# Altium schematic symbol library TI Interface ESD EMI Protection.SchLib: 82 symbols (part 3 of 3)
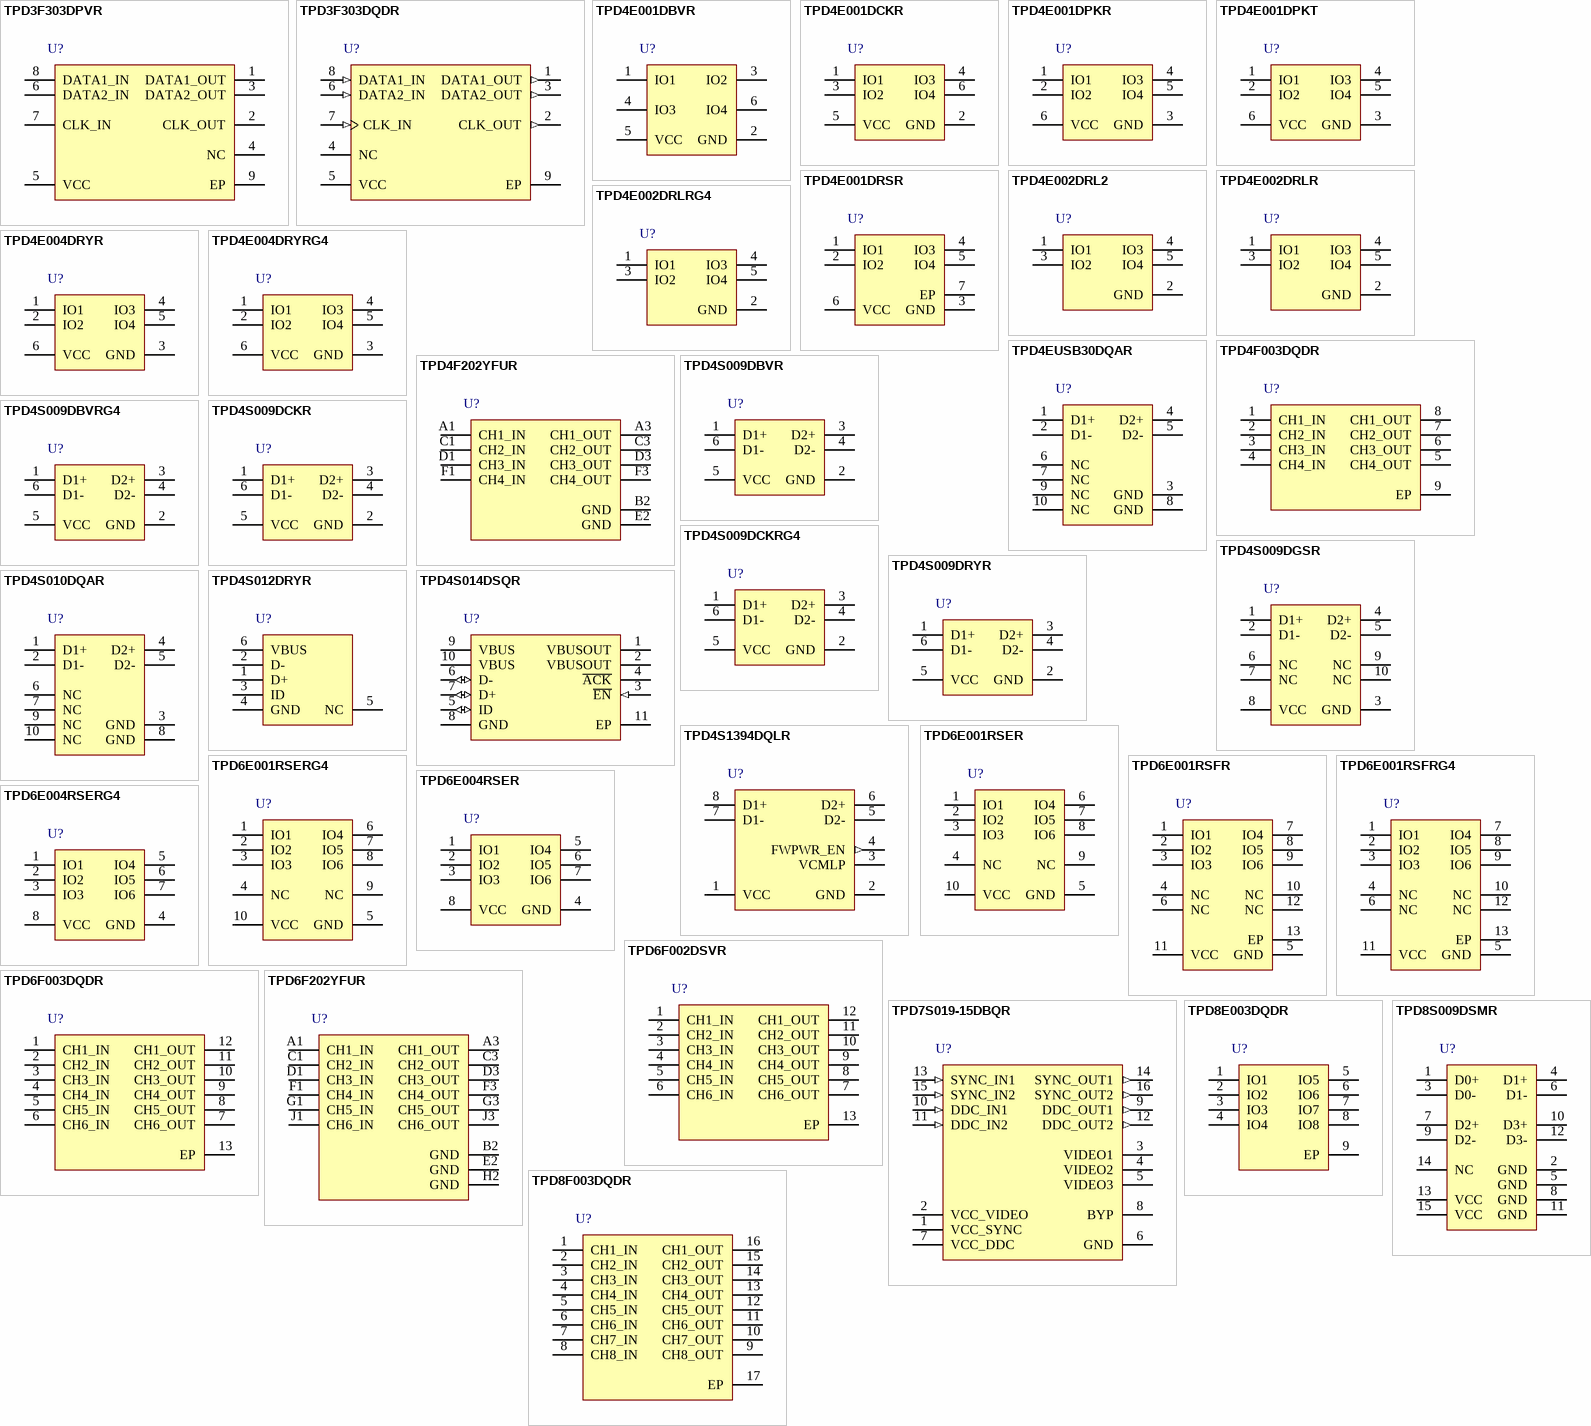
[diagram p4: symbols TPD3F303DPVR to TPD8S009DSMR]

## TPD4S009DRYR
designator U?
ESD Solution for High-Speed Differential Interface, 4 Channels, -40 to +85 degC, 6-pin SON (DRY), Green (RoHS & no Sb/Br); Manufacturer: Texas Instruments; PartNumber: TPD4S009DRYR; Breakdown Voltage(Min)(V): 9; Differential Capacitance(pF): 0.05; IEC 61000-4-2 Contact(+/- kV): 8; IO Capacitance(Typ)(pF): 0.8; IO Leakage Current(nA): 10; DatasheetVersion: SLVS817E; PackageVersion: revF, Dec-2011; PackageReference: DRY6; PackageDescription: 6-Pin Plastic Small Outline No-Lead, 1 x 1.45 x 0.6 mm Body, 0.5 mm Pitch; Supplier 1: Digi-Key; Supplier Part Number 1: 296-23628-2-ND; Supplier 2: Digi-Key; Supplier Part Number 2: 296-23628-1-ND; Supplier 3: Digi-Key; Supplier Part Number 3: 296-23628-6-ND; Supplier 4: Newark; Supplier Part Number 4: 03P5149; Supplier 5: Mouser; Supplier Part Number 5: 595-TPD4S009DRYR; Eco-Plan: Green (RoHS & no Sb/Br); IEC 61000-4-2 Air-Gap(+/- kV): 9; SubFamily: ESD Solution; Mounting Technology: Surface Mount; ComponentLink1Description: Datasheet; ComponentLink1URL: http://www.ti.com/general/docs/lit/getliterature.tsp?genericPartNumber=TPD4S009&fileType=pdf; ComponentLink2Description: URL Link1; ComponentLink2URL: SamplesURL:http://www.ti.com/product/tpd4s009#samples
footprint DRY6 (PSON, 6-Leads, Body 1x1.45mm, Pitch 0.5mm, TI Recommended)
pins: 1 D1+ "High-speed ESD clamp provides ESD protection to the high-speed display port/HDMI differential data lines.", 2 GND (power) "Ground", 3 D2+ "High-speed ESD clamp provides ESD protection to the high-speed display port/HDMI differential data lines.", 4 D2- "High-speed ESD clamp provides ESD protection to the high-speed display port/HDMI differential data lines.", 5 VCC (power) "Supply", 6 D1- "High-speed ESD clamp provides ESD protection to the high-speed display port/HDMI differential data lines."

## TPD4S010DQAR
designator U?
ESD Solution for High-Speed Differential Interface, 4 Channels, -40 to +85 degC,10-pin SON (DQA), Green (RoHS & no Sb/Br); Manufacturer: Texas Instruments; PartNumber: TPD4S010DQAR; 1394 / Firewire: TRUE; Breakdown Voltage(Min)(V): 9; Differential Capacitance(pF): 0.05; IEC 61000-4-2 Contact(+/- kV): 8; IO Capacitance(Typ)(pF): 0.8; IO Leakage Current(nA): 10; DatasheetVersion: SLVS817E; PackageVersion: revB, Sep-2009; PackageReference: DQA10; PackageDescription: 10-Pin Plastic Small Outline No-Lead, 1 x 2.5 x 0.55 mm Body, 0.5 mm Pitch; Supplier 1: Digi-Key; Supplier Part Number 1: 296-24177-2-ND; Supplier 2: Digi-Key; Supplier Part Number 2: 296-24177-1-ND; Supplier 3: Digi-Key; Supplier Part Number 3: 296-24177-6-ND; Supplier 4: Newark; Supplier Part Number 4: 09R6564; Supplier 5: Mouser; Supplier Part Number 5: 595-TPD4S010DQAR; Eco-Plan: Green (RoHS & no Sb/Br); IEC 61000-4-2 Air-Gap(+/- kV): 9; Serial ATA / eSATA: TRUE; SubFamily: ESD Solution; Mounting Technology: Surface Mount; ComponentLink1Description: Datasheet; ComponentLink1URL: http://www.ti.com/general/docs/lit/getliterature.tsp?genericPartNumber=TPD4S010&fileType=pdf; ComponentLink2Description: URL Link1; ComponentLink2URL: SamplesURL:http://www.ti.com/product/tpd4s010#samples
footprint DQA10 (SON, 10-Leads, Body 1x2.5mm, Pitch 0.5mm, TI Recommended)
pins: 1 D1+ "High-speed ESD clamp provides ESD protection to the high-speed differential data line", 2 D1- "High-speed ESD clamp provides ESD protection to the high-soeed differential data line", 3 GND (power) "Ground", 4 D2+ "High-speed ESD clamp provides ESD protection to the high-speed differential data line", 5 D2- "High-speed ESD clamp provides ESD protection to the high-speed differential data line", 6 NC "Not internally connected", 7 NC "Not internally connected", 8 GND (power) "Ground", 9 NC "Not internally connected", 10 NC "Not internally connected"

## TPD4S012DRYR
designator U?
USB ESD Solution with Power Clamp, 4 Channels, -40 to +85 degC, 6-pin SON (DRY), Green (RoHS & no Sb/Br); Manufacturer: Texas Instruments; PartNumber: TPD4S012DRYR; Breakdown Voltage(Min)(V): 6; IEC 61000-4-2 Air-Gap(+/- kV): 10; IO Capacitance(Typ)(pF): 0.8; USB High Speed: TRUE; DatasheetVersion: SLVS928A; PackageVersion: revF, Dec-2011; PackageReference: DRY6; PackageDescription: 6-Pin Plastic Small Outline No-Lead, 1 x 1.45 x 0.6 mm Body, 0.5 mm Pitch; Supplier 1: Digi-Key; Supplier Part Number 1: 296-24244-2-ND; Supplier 2: Digi-Key; Supplier Part Number 2: 296-24244-1-ND; Supplier 3: Digi-Key; Supplier Part Number 3: 296-24244-6-ND; Supplier 4: Farnell; Supplier Part Number 4: 1755332; Supplier 5: Newark; Supplier Part Number 5: 73P5280; Supplier 6: Mouser; Supplier Part Number 6: 595-TPD4S012DRYR; Eco-Plan: Green (RoHS & no Sb/Br); IEC 61000-4-2 Contact(+/- kV): 10; IO Leakage Current(nA): 10; SubFamily: ESD Solution; Mounting Technology: Surface Mount; ComponentLink1Description: Datasheet; ComponentLink1URL: http://www.ti.com/general/docs/lit/getliterature.tsp?genericPartNumber=TPD4S012&fileType=pdf; ComponentLink2Description: URL Link1; ComponentLink2URL: SamplesURL:http://www.ti.com/product/tpd4s012#samples
footprint DRY6 (PSON, 6-Leads, Body 1x1.45mm, Pitch 0.5mm, TI Recommended)
pins: 1 D+ "Provides ESD protection to the high-speed differential data line", 2 D- "Provides ESD protection to the high-speed differential data line", 3 ID "Provides ESD protection to the high-speed differential data line", 4 GND (power) "Ground", 5 NC "Not internally connected", 6 VBUS "ESD clamp for high-voltage tolerant VBUS line"

## TPD4S014DSQR
designator U?
Complete USB Port Protection Device, 4 Channels, -40 to +85 degC, 10-pin SON (DSQ), Green (RoHS & no Sb/Br); Manufacturer: Texas Instruments; PartNumber: TPD4S014DSQR; Breakdown Voltage(Min)(V): 6V, 28V (VBUS); Differential Capacitance(pF): 0.05; IEC 61000-4-2 Air-Gap(+/- kV): 15; IO Capacitance(Typ)(pF): 1.5; IO Leakage Current(nA): 1000; SubFamily: ESD Solution; USB Full Speed: TRUE; DatasheetVersion: SLVSAU0C; PackageVersion: revB, Apr-2010; PackageReference: DSQ10-1500X900TP; PackageDescription: 10-Pin Plastic Small Outline No-Lead, 2 x 2 x 0.8 mm Body, 0.4 mm Pitch, Exposed Pad; Supplier 1: Digi-Key; Supplier Part Number 1: 296-29093-2-ND; Supplier 2: Digi-Key; Supplier Part Number 2: 296-29093-1-ND; Supplier 3: Digi-Key; Supplier Part Number 3: 296-29093-6-ND; Supplier 4: Farnell; Supplier Part Number 4: 1926951; Supplier 5: Farnell; Supplier Part Number 5: 1926951RL; Supplier 6: Newark; Supplier Part Number 6: 51T4811; Supplier 7: Newark; Supplier Part Number 7: 58T2304; Supplier 8: Mouser; Supplier Part Number 8: 595-TPD4S014DSQR; Eco-Plan: Green (RoHS & no Sb/Br); IEC 61000-4-2 Contact(+/- kV): 15; USB High Speed: TRUE; Mounting Technology: Surface Mount; ComponentLink1Description: Datasheet; ComponentLink1URL: http://www.ti.com/general/docs/lit/getliterature.tsp?genericPartNumber=TPD4S014&fileType=pdf; ComponentLink2Description: URL Link1; ComponentLink2URL: SamplesURL:http://www.ti.com/product/tpd4s014#samples
footprint DSQ10-1500X900TP (SON, 10-Leads, Body 2x2mm, Pitch 0.4mm, Thermal Pad 1.5x0.9mm, TI Recommended)
pins: 1 VBUSOUT (power) "Connect to PCB internal PCB plane", 2 VBUSOUT (power) "Connect to PCB internal PCB plane", 3 ~{EN} (in) "Enable Active-Low Input. Drive EN low to enable the switch. Drive EN high to disable the switch.", 4 ~{ACK} (oc) "Open-Drain Adapter-Voltage Indicator Output. ACOK is driven low after the VIN voltage is stable between UVLO and OVLO for 16ms (typ). Connect a pullup resistor from ACOK to the logic I/O voltage of the host system.", 5 ID (io) "USB ID signal", 6 D- (io) "USB data-", 7 D+ (io) "USB data+", 8 GND (power) "Connect to PCB ground plane", 9 VBUS (power) "USB connector VBUS", 10 VBUS (power) "USB connector VBUS", 11 EP (power) "Electrically disconnected. Use as heat sink. Connect to GND plane via large PCB PAD"

## TPD4S1394DQLR
designator U?
Firewire ESD Clamp with Live-Insertion Detection Circuit, 4 Channels, -40 to +85 degC, 8-pin X2SON (DQL), Green (RoHS & no Sb/Br); Manufacturer: Texas Instruments; PartNumber: TPD4S1394DQLR; Breakdown Voltage(Min)(V): 4; IEC 61000-4-2 Contact(+/- kV): 6; IO Capacitance(Typ)(pF): 1.5; SubFamily: ESD Solution; DatasheetVersion: SLVSA55; PackageVersion: revA, Jun-2009; PackageReference: DQL8; PackageDescription: 8-Pin Plastic Small Outline No-Lead, 1.4 x 2 x 0.4 mm Body, 0.5 mm Pitch; Supplier 1: Digi-Key; Supplier Part Number 1: 296-25455-2-ND; Supplier 2: Digi-Key; Supplier Part Number 2: 296-25455-1-ND; Supplier 3: Digi-Key; Supplier Part Number 3: 296-25455-6-ND; Supplier 4: Farnell; Supplier Part Number 4: 1815759RL; Supplier 5: Newark; Supplier Part Number 5: 55R7555; Supplier 6: Newark; Supplier Part Number 6: 53R2229; Supplier 7: Mouser; Supplier Part Number 7: 595-TPD4S1394DQLR; Eco-Plan: Green (RoHS & no Sb/Br); Mounting Technology: Surface Mount; ComponentLink1Description: Datasheet; ComponentLink1URL: http://www.ti.com/general/docs/lit/getliterature.tsp?genericPartNumber=TPD4S1394&fileType=pdf; ComponentLink2Description: URL Link1; ComponentLink2URL: SamplesURL:http://www.ti.com/product/tpd4s1394#samples
footprint DQL8 (SON, 8-Leads, Body 1.4x2mm, Pitch 0.5mm, TI Recommended)
pins: 1 VCC (power) "Power supply", 2 GND (power) "Ground", 3 VCMLP "Comparator trip reference", 4 FWPWR_EN (out) "Control output", 5 D2- "High-speed ESD clamp input", 6 D2+ "High-speed ESD clamp input", 7 D1- "High-speed ESD clamp input", 8 D1+ "High-speed ESD clamp input"

## TPD6E001RSER
designator U?
Low-Capacitance + / - 15 kV ESD Protection Array for High-Speed Data Interfaces, 6 Channels, -40 to +85 degC, 10-pin UQFN (RSE), Green (RoHS & no Sb/Br); Manufacturer: Texas Instruments; PartNumber: TPD6E001RSER; 1394 / Firewire: TRUE; Breakdown Voltage(Min)(V): 11; IEC 61000-4-2 Air-Gap(+/- kV): 15; IEC 61000-4-2 Contact(+/- kV): 8; IO Capacitance(Typ)(pF): 1.5; IO Leakage Current(nA): 1; SubFamily: ESD Solution; DatasheetVersion: SLLS685C; PackageVersion: revD, Jan-2011; PackageReference: RSE10; PackageDescription: 10-Leads Plastic Quad Flatpack No-Lead, 2 x 1.5 x 0.55 mm Body, 0.5 mm Pitch; Supplier 1: Digi-Key; Supplier Part Number 1: 296-21888-2-ND; Supplier 2: Digi-Key; Supplier Part Number 2: 296-21888-1-ND; Supplier 3: Digi-Key; Supplier Part Number 3: 296-21888-6-ND; Supplier 4: Farnell; Supplier Part Number 4: 1364274; Supplier 5: Newark; Supplier Part Number 5: 30M1828; Supplier 6: Mouser; Supplier Part Number 6: 595-TPD6E001RSER; Eco-Plan: Green (RoHS & no Sb/Br); Serial ATA / eSATA: TRUE; USB High Speed: TRUE; Mounting Technology: Surface Mount; Code_JEDEC: MO-288-UEFD; ComponentLink1Description: Datasheet; ComponentLink1URL: http://www.ti.com/general/docs/lit/getliterature.tsp?genericPartNumber=TPD6E001&fileType=pdf; ComponentLink2Description: URL Link1; ComponentLink2URL: SamplesURL:http://www.ti.com/product/tpd6e001#samples
footprint RSE10 (QFN, 10-Leads, Body 1.5x2mm, Pitch 0.5mm, TI Recommended)
pins: 1 IO1 "ESD-protected channel", 2 IO2 "ESD-protected channel", 3 IO3 "ESD-protected channel", 4 NC "Not internally connected", 5 GND (power) "Ground", 6 IO4 "ESD-protected channel", 7 IO5 "ESD-protected channel", 8 IO6 "ESD-protected channel", 9 NC "Not internally connected", 10 VCC (power) "Power-supply input. Bypass VCC to GND with a 0.1-uF ceramic capacitor."

## TPD6E001RSERG4
designator U?
Low-Capacitance + / - 15 kV ESD Protection Array for High-Speed Data Interfaces, 6 Channels, -40 to +85 degC, 10-pin UQFN (RSE), Green (RoHS & no Sb/Br); Manufacturer: Texas Instruments; PartNumber: TPD6E001RSERG4; 1394 / Firewire: TRUE; Breakdown Voltage(Min)(V): 11; IEC 61000-4-2 Air-Gap(+/- kV): 15; IEC 61000-4-2 Contact(+/- kV): 8; IO Capacitance(Typ)(pF): 1.5; IO Leakage Current(nA): 1; SubFamily: ESD Solution; DatasheetVersion: SLLS685C; PackageVersion: revD, Jan-2011; PackageReference: RSE10; PackageDescription: 10-Leads Plastic Quad Flatpack No-Lead, 2 x 1.5 x 0.55 mm Body, 0.5 mm Pitch; Supplier 1: Digi-Key; Supplier Part Number 1: TPD6E001RSERG4-ND; Supplier 2: Newark; Supplier Part Number 2: 46M1089; Supplier 3: Mouser; Supplier Part Number 3: 595-TPD6E001RSERG4; Eco-Plan: Green (RoHS & no Sb/Br); Serial ATA / eSATA: TRUE; USB High Speed: TRUE; Mounting Technology: Surface Mount; Code_JEDEC: MO-288-UEFD; ComponentLink1Description: Datasheet; ComponentLink1URL: http://www.ti.com/general/docs/lit/getliterature.tsp?genericPartNumber=TPD6E001&fileType=pdf; ComponentLink2Description: URL Link1; ComponentLink2URL: SamplesURL:http://www.ti.com/product/tpd6e001#samples
footprint RSE10 (QFN, 10-Leads, Body 1.5x2mm, Pitch 0.5mm, TI Recommended)
pins: 1 IO1 "ESD-protected channel", 2 IO2 "ESD-protected channel", 3 IO3 "ESD-protected channel", 4 NC "Not internally connected", 5 GND (power) "Ground", 6 IO4 "ESD-protected channel", 7 IO5 "ESD-protected channel", 8 IO6 "ESD-protected channel", 9 NC "Not internally connected", 10 VCC (power) "Power-supply input. Bypass VCC to GND with a 0.1-uF ceramic capacitor."

## TPD6E001RSFR
designator U?
Low-Capacitance + / - 15 kV ESD Protection Array for High-Speed Data Interfaces, 6 Channels, -40 to +85 degC, 12-pin WQFN (RSF), Green (RoHS & no Sb/Br); Manufacturer: Texas Instruments; PartNumber: TPD6E001RSFR; 1394 / Firewire: TRUE; Breakdown Voltage(Min)(V): 11; IEC 61000-4-2 Air-Gap(+/- kV): 15; IEC 61000-4-2 Contact(+/- kV): 8; IO Capacitance(Typ)(pF): 1.5; IO Leakage Current(nA): 1; SubFamily: ESD Solution; DatasheetVersion: SLLS685C; PackageVersion: revB, Apr-2007; PackageReference: RSF12-2100X2100TP; PackageDescription: 12-Pin Plastic Quad Flatpack No-Lead, 4 x 4 x 0.75 mm Body, 0.8 mm Pitch, Exposed Pad; Supplier 1: Digi-Key; Supplier Part Number 1: 296-21889-2-ND; Supplier 2: Digi-Key; Supplier Part Number 2: 296-21889-1-ND; Supplier 3: Digi-Key; Supplier Part Number 3: 296-21889-6-ND; Supplier 4: Farnell; Supplier Part Number 4: 1603423; Supplier 5: Newark; Supplier Part Number 5: 41M5844; Supplier 6: Mouser; Supplier Part Number 6: 595-TPD6E001RSFR; Eco-Plan: Green (RoHS & no Sb/Br); Serial ATA / eSATA: TRUE; USB High Speed: TRUE; Mounting Technology: Surface Mount; Code_JEDEC: MO-220-WGGB; ComponentLink1Description: Datasheet; ComponentLink1URL: http://www.ti.com/general/docs/lit/getliterature.tsp?genericPartNumber=TPD6E001&fileType=pdf; ComponentLink2Description: URL Link1; ComponentLink2URL: SamplesURL:http://www.ti.com/product/tpd6e001#samples
footprint RSF12-2100X2100TP (QFN, 12-Leads, Body 4x4mm, Pitch 0.8mm, Thermal Pad 2.2x2.2mm, TI Recommended)
pins: 1 IO1 "ESD-protected channel", 2 IO2 "ESD-protected channel", 3 IO3 "ESD-protected channel", 4 NC "Not internally connected", 5 GND (power) "Ground", 6 NC "Not internally connected", 7 IO4 "ESD-protected channel", 8 IO5 "ESD-protected channel", 9 IO6 "ESD-protected channel", 10 NC "Not internally connected", 11 VCC (power) "Power-supply input. Bypass VCC to GND with a 0.1-uF ceramic capacitor.", 12 NC "Not internally connected", 13 EP (power) "Exposed pad. Connect to GND."

## TPD6E001RSFRG4
designator U?
Low-Capacitance + / - 15 kV ESD Protection Array for High-Speed Data Interfaces, 6 Channels, -40 to +85 degC, 12-pin WQFN (RSF), Green (RoHS & no Sb/Br); Manufacturer: Texas Instruments; PartNumber: TPD6E001RSFRG4; 1394 / Firewire: TRUE; Breakdown Voltage(Min)(V): 11; IEC 61000-4-2 Air-Gap(+/- kV): 15; IEC 61000-4-2 Contact(+/- kV): 8; IO Capacitance(Typ)(pF): 1.5; IO Leakage Current(nA): 1; SubFamily: ESD Solution; DatasheetVersion: SLLS685C; PackageVersion: revB, Apr-2007; PackageReference: RSF12-2100X2100TP; PackageDescription: 12-Pin Plastic Quad Flatpack No-Lead, 4 x 4 x 0.75 mm Body, 0.8 mm Pitch, Exposed Pad; Supplier 1: Digi-Key; Supplier Part Number 1: TPD6E001RSFRG4-ND; Supplier 2: Newark; Supplier Part Number 2: 53M4000; Supplier 3: Mouser; Supplier Part Number 3: 595-TPD6E001RSFRG4; Eco-Plan: Green (RoHS & no Sb/Br); Serial ATA / eSATA: TRUE; USB High Speed: TRUE; Mounting Technology: Surface Mount; Code_JEDEC: MO-220-WGGB; ComponentLink1Description: Datasheet; ComponentLink1URL: http://www.ti.com/general/docs/lit/getliterature.tsp?genericPartNumber=TPD6E001&fileType=pdf; ComponentLink2Description: URL Link1; ComponentLink2URL: SamplesURL:http://www.ti.com/product/tpd6e001#samples
footprint RSF12-2100X2100TP (QFN, 12-Leads, Body 4x4mm, Pitch 0.8mm, Thermal Pad 2.2x2.2mm, TI Recommended)
pins: 1 IO1 "ESD-protected channel", 2 IO2 "ESD-protected channel", 3 IO3 "ESD-protected channel", 4 NC "Not internally connected", 5 GND (power) "Ground", 6 NC "Not internally connected", 7 IO4 "ESD-protected channel", 8 IO5 "ESD-protected channel", 9 IO6 "ESD-protected channel", 10 NC "Not internally connected", 11 VCC (power) "Power-supply input. Bypass VCC to GND with a 0.1-uF ceramic capacitor.", 12 NC "Not internally connected", 13 EP (power) "Exposed pad. Connect to GND."

## TPD6E004RSER
designator U?
Low-Capacitance + / - 15 kV ESD Protection Array for High-Speed Data Interfaces, 6 Channels, -40 to +85 degC, 8-pin UQFN (RSE), Green (RoHS & no Sb/Br); Manufacturer: Texas Instruments; PartNumber: TPD6E004RSER; 1394 / Firewire: TRUE; Breakdown Voltage(Min)(V): 6; IEC 61000-4-2 Air-Gap(+/- kV): 12; IEC 61000-4-2 Contact(+/- kV): 8; IO Capacitance(Typ)(pF): 1.6; IO Leakage Current(nA): 1; SubFamily: ESD Solution; DatasheetVersion: SLLS799A; PackageVersion: revD, Jan-2011; PackageReference: RSE8; PackageDescription: 8-Pin Plastic Quad Flatpack No-Lead, 1.5 x 1.5 mm Body, 0.5 mm Pitch; Supplier 1: Digi-Key; Supplier Part Number 1: 296-23619-2-ND; Supplier 2: Digi-Key; Supplier Part Number 2: 296-23619-1-ND; Supplier 3: Digi-Key; Supplier Part Number 3: 296-23619-6-ND; Supplier 4: Farnell; Supplier Part Number 4: 1755333; Supplier 5: Newark; Supplier Part Number 5: 85M0178; Supplier 6: Mouser; Supplier Part Number 6: 595-TPD6E004RSER; Eco-Plan: Green (RoHS & no Sb/Br); Serial ATA / eSATA: TRUE; USB High Speed: TRUE; Mounting Technology: Surface Mount; Code_JEDEC: MO-288; ComponentLink1Description: Datasheet; ComponentLink1URL: http://www.ti.com/general/docs/lit/getliterature.tsp?genericPartNumber=TPD6E004&fileType=pdf; ComponentLink2Description: URL Link1; ComponentLink2URL: SamplesURL:http://www.ti.com/product/tpd6e004#samples
footprint RSE8 (QFN, 8-Leads, Body 1.5x1.5mm, Pitch 0.5mm, TI Recommended)
pins: 1 IO1 "ESD-protected channel", 2 IO2 "ESD-protected channel", 3 IO3 "ESD-protected channel", 4 GND (power) "Ground", 5 IO4 "ESD-protected channel", 6 IO5 "ESD-protected channel", 7 IO6 "ESD-protected channel", 8 VCC (power) "Power-supply input. Bypass VCC to GND with a 0.1-µF ceramic capacitor."

## TPD6E004RSERG4
designator U?
Low-Capacitance + / - 15 kV ESD Protection Array for High-Speed Data Interfaces, 6 Channels, -40 to +85 degC, 8-pin QFN (RSE), Green (RoHS & no Sb/Br); Manufacturer: Texas Instruments; PartNumber: TPD6E004RSERG4; 1394 / Firewire: TRUE; Breakdown Voltage(Min)(V): 6; IEC 61000-4-2 Air-Gap(+/- kV): 12; IEC 61000-4-2 Contact(+/- kV): 8; IO Capacitance(Typ)(pF): 1.6; IO Leakage Current(nA): 1; SubFamily: ESD Solution; DatasheetVersion: SLLS799A; PackageVersion: revD, Jan-2011; PackageReference: RSE8; PackageDescription: 8-Pin Plastic Quad Flatpack No-Lead, 1.5 x 1.5 mm Body, 0.5 mm Pitch; Supplier 1: Digi-Key; Supplier Part Number 1: TPD6E004RSERG4-ND; Supplier 2: Mouser; Supplier Part Number 2: 595-TPD6E004RSERG4; Eco-Plan: Green (RoHS & no Sb/Br); Serial ATA / eSATA: TRUE; USB High Speed: TRUE; Mounting Technology: Surface Mount; Code_JEDEC: MO-288; ComponentLink1Description: Datasheet; ComponentLink1URL: http://www.ti.com/general/docs/lit/getliterature.tsp?genericPartNumber=TPD6E004&fileType=pdf; ComponentLink2Description: URL Link1; ComponentLink2URL: SamplesURL:http://www.ti.com/product/tpd6e004#samples
footprint RSE8 (QFN, 8-Leads, Body 1.5x1.5mm, Pitch 0.5mm, TI Recommended)
pins: 1 IO1 "ESD-protected channel", 2 IO2 "ESD-protected channel", 3 IO3 "ESD-protected channel", 4 GND (power) "Ground", 5 IO4 "ESD-protected channel", 6 IO5 "ESD-protected channel", 7 IO6 "ESD-protected channel", 8 VCC (power) "Power-supply input. Bypass VCC to GND with a 0.1-µF ceramic capacitor."

## TPD6F002DSVR
designator U?
EMI Filter for Display Interface, 6 Channels, -40 to +85 degC, 12-pin SON (DSV), Green (RoHS & no Sb/Br); Manufacturer: Texas Instruments; PartNumber: TPD6F002DSVR; Breakdown Voltage(Min)(V): 6; Ctotal(Typ)(pF): 34; IEC 61000-4-2 Air-Gap(Typ)(+/- kV): 30; IEC 61000-4-2 Contact(Typ)(+/- kV): 20; SubFamily: EMI Solution; DatasheetVersion: SLLS876A; PackageVersion: revB, Dec-2011; PackageReference: DSV12-2000X350TP; PackageDescription: 12-Pin Plastic Small Outline No-Lead, 1.35 x 3 x 0.8 mm Body, 0.5 mm Pitch, Exposed Pad; Supplier 1: Digi-Key; Supplier Part Number 1: 296-25456-2-ND; Supplier 2: Digi-Key; Supplier Part Number 2: 296-25456-1-ND; Supplier 3: Digi-Key; Supplier Part Number 3: 296-25456-6-ND; Supplier 4: Farnell; Supplier Part Number 4: 1815760; Supplier 5: Farnell; Supplier Part Number 5: 1815760RL; Supplier 6: Newark; Supplier Part Number 6: 53R2230; Supplier 7: Mouser; Supplier Part Number 7: 595-TPD6F002DSVR; Eco-Plan: Green (RoHS & no Sb/Br); Mounting Technology: Surface Mount; ComponentLink1Description: Datasheet; ComponentLink1URL: http://www.ti.com/general/docs/lit/getliterature.tsp?genericPartNumber=TPD6F002&fileType=pdf; ComponentLink2Description: URL Link1; ComponentLink2URL: SamplesURL:http://www.ti.com/product/tpd6f002#samples
footprint DSV12-2000X350TP (SON, 12-Leads, Body 1.35x3mm, Pitch 0.5mm, Thermal Pad 2x0.35mm, TI Recommended)
pins: 1 CH1_IN, 2 CH2_IN, 3 CH3_IN, 4 CH4_IN, 5 CH5_IN, 6 CH6_IN, 7 CH6_OUT, 8 CH5_OUT, 9 CH4_OUT, 10 CH3_OUT, 11 CH2_OUT, 12 CH1_OUT, 13 EP (power) "Exposed Thermal Pad"

## TPD6F003DQDR
designator U?
EMI Filter for Display Interface, 6 Channels, -40 to +85 degC, 12-pin WSON (DQD), Green (RoHS & no Sb/Br); Manufacturer: Texas Instruments; PartNumber: TPD6F003DQDR; Breakdown Voltage(Min)(V): 6; Ctotal(Typ)(pF): 19; IEC 61000-4-2 Air-Gap(Typ)(+/- kV): 20; IEC 61000-4-2 Contact(Typ)(+/- kV): 12; SubFamily: EMI Solution; DatasheetVersion: SLLS907D; PackageVersion: revC, Dec-2011; PackageReference: DQD12-2000X400TP; PackageDescription: 12-Pin Plastic Small Outline No-Lead, 1.35 x 2.5 x 0.8 mm Body, 0.4 mm Pitch, Exposed Pad; Supplier 1: Digi-Key; Supplier Part Number 1: 296-25802-2-ND; Supplier 2: Digi-Key; Supplier Part Number 2: 296-25802-1-ND; Supplier 3: Digi-Key; Supplier Part Number 3: 296-25802-6-ND; Supplier 4: Farnell; Supplier Part Number 4: 1863883; Supplier 5: Newark; Supplier Part Number 5: 69R4547; Supplier 6: Mouser; Supplier Part Number 6: 595-TPD6F003DQDR; Eco-Plan: Green (RoHS & no Sb/Br); Mounting Technology: Surface Mount; ComponentLink1Description: Datasheet; ComponentLink1URL: http://www.ti.com/general/docs/lit/getliterature.tsp?genericPartNumber=TPD6F003&fileType=pdf; ComponentLink2Description: URL Link1; ComponentLink2URL: SamplesURL:http://www.ti.com/product/tpd6f003#samples
footprint DQD12-2000X400TP (SON, 12-Leads, Body 1.35x2.5mm, Pitch 0.4mm, Thermal Pad 2x0.4mm, TI Recommended)
pins: 1 CH1_IN, 2 CH2_IN, 3 CH3_IN, 4 CH4_IN, 5 CH5_IN, 6 CH6_IN, 7 CH6_OUT, 8 CH5_OUT, 9 CH4_OUT, 10 CH3_OUT, 11 CH2_OUT, 12 CH1_OUT, 13 EP (power) "Exposed Thermal Pad"

## TPD6F202YFUR
designator U?
EMI Filter for LCD Display Application, 6 Channels, -40 to +85 degC, 15-pin DSBGA (YFU), Green (RoHS & no Sb/Br); Manufacturer: Texas Instruments; PartNumber: TPD6F202YFUR; Breakdown Voltage(Min)(V): 6; Ctotal(Typ)(pF): 30; IEC 61000-4-2 Air-Gap(Typ)(+/- kV): 25; SubFamily: EMI Solution; DatasheetVersion: SLLS800; PackageVersion: revC, Mar-2010; PackageReference: YFU15; PackageDescription: 15-Ball Staggered Ball Grid Array, 2.36 x 1.05 mm Body, 0.693/0.4 mm Pitch, Pb-Free; Supplier 1: Digi-Key; Supplier Part Number 1: 296-27638-2-ND; Supplier 2: Digi-Key; Supplier Part Number 2: 296-27638-1-ND; Supplier 3: Digi-Key; Supplier Part Number 3: 296-27638-6-ND; Supplier 4: Mouser; Supplier Part Number 4: 595-TPD6F202YFUR; Eco-Plan: Green (RoHS & no Sb/Br); IEC 61000-4-2 Contact(Typ)(+/- kV): 25; Mounting Technology: Surface Mount; ComponentLink1Description: Datasheet; ComponentLink1URL: http://www.ti.com/general/docs/lit/getliterature.tsp?genericPartNumber=TPD6F202&fileType=pdf; ComponentLink2Description: URL Link1; ComponentLink2URL: SamplesURL:http://www.ti.com/product/tpd6f202#samples
footprint YFU15 (BGA, Staggered, 15-Leads, Body 2.36x1.05mm, Pitch 0.693/0.4mm)
pins: A1 CH1_IN, A3 CH1_OUT, B2 GND (power), C1 CH2_IN, C3 CH2_OUT, D1 CH3_IN, D3 CH3_OUT, E2 GND (power), F1 CH4_IN, F3 CH4_OUT, G1 CH5_IN, G3 CH5_OUT, H2 GND (power), J1 CH6_IN, J3 CH6_OUT

## TPD7S019-15DBQR
designator U?
Integrated ESD Solution for VGA Port with Integrated Level Shifter and Matching Impedance, 7 Channels, -40 to +85 degC, 16-pin SSOP (DBQ), Green (RoHS & no Sb/Br); Manufacturer: Texas Instruments; PartNumber: TPD7S019-15DBQR; Breakdown Voltage(Min)(V): 9; IEC 61000-4-2 Contact(+/- kV): 8; IO Capacitance(Typ)(pF): 2.5; IO Leakage Current(nA): 10; DatasheetVersion: SLLSE33; PackageVersion: revH, Oct-2008; PackageReference: DBQ16; PackageDescription: 16-Pin Small Outline Package 0.635 mm Pitch; Supplier 1: Digi-Key; Supplier Part Number 1: 296-27595-2-ND; Supplier 2: Digi-Key; Supplier Part Number 2: 296-27595-1-ND; Supplier 3: Digi-Key; Supplier Part Number 3: 296-27595-6-ND; Supplier 4: Newark; Supplier Part Number 4: 79R9090; Supplier 5: Newark; Supplier Part Number 5: 79R8540; Supplier 6: Mouser; Supplier Part Number 6: 595-TPD7S019-15DBQR; Eco-Plan: Green (RoHS & no Sb/Br); SubFamily: ESD Solution; Mounting Technology: Surface Mount; Code_JEDEC: MO-137-AB; ComponentLink1Description: Datasheet; ComponentLink1URL: http://www.ti.com/general/docs/lit/getliterature.tsp?genericPartNumber=TPD7S019&fileType=pdf; ComponentLink2Description: URL Link1; ComponentLink2URL: SamplesURL:http://www.ti.com/product/tpd7s019#samples
footprint DBQ16_N (SOP, 16-Leads, Body 4.9x3.9mm, Pitch 0.635mm, IPC Medium Density)
footprint DBQ16_L (SOP, 16-Leads, Body 4.9x3.9mm, Pitch 0.635mm, IPC High Density)
footprint DBQ16_M (SOP, 16-Leads, Body 4.9x3.9mm, Pitch 0.635mm, IPC Low Density)
pins: 1 VCC_SYNC (power) "Isolated supply input for the SYNC_1 and SYNC_2 level shifters and their associated ESD protection circuits.", 2 VCC_VIDEO (power) "Supply pin specifically for the VIDEO_1, VIDEO_2 and VIDEO_3 ESD protection circuits", 3 VIDEO1 "High-speed ESD clamp input", 4 VIDEO2 "High-speed ESD clamp input", 5 VIDEO3 "High-speed ESD clamp input", 6 GND (power) "Ground", 7 VCC_DDC (power) "Isolated supply input for the DDC_1 and DDC_2 level-shifting N-FET gates", 8 BYP "Bypass pin Using a 0.2 uF bypass capacitor will increase the ESD robustness of the system.", 9 DDC_OUT1 (out) "DDC signal output. Connects to the video connector side of one of the sync lines", 10 DDC_IN1 (in) "DDC signal input. Connects to the VGA controller side of one of the sync lines.", 11 DDC_IN2 (in) "DDC signal input. Connects to the VGA controller side of one of the sync lines.", 12 DDC_OUT2 (out) "DDC signal output. Connects to the video connector side of one of the sync lines", 13 SYNC_IN1 (in) "Sync signal buffer input. Connects to the VGA controller side of one of the sync lines", 14 SYNC_OUT1 (out) "Sync signal buffer output. Connects to the video connector side of one of the sync lines", 15 SYNC_IN2 (in) "Sync signal buffer input. Connects to the VGA controller side of one of the sync lines", 16 SYNC_OUT2 (out) "Sync signal buffer output. Connects to the video connector side of one of the sync lines"

## TPD8E003DQDR
designator U?
ESD Array For Portable Space-Saving Applications, 8 Channels, -40 to +85 degC, 8-pin WSON (DQD), Green (RoHS & no Sb/Br); Manufacturer: Texas Instruments; PartNumber: TPD8E003DQDR; Breakdown Voltage(Min)(V): 6; IEC 61000-4-2 Air-Gap(+/- kV): 15; IEC 61000-4-2 Contact(+/- kV): 12; IO Capacitance(Typ)(pF): 9; IO Leakage Current(nA): 100; SubFamily: ESD Solution; USB Full Speed: TRUE; DatasheetVersion: SLLSE38A; PackageVersion: revC, Dec-2011; PackageReference: DQD8-1200X400TP; PackageDescription: 8-Pin Plastic Small Outline No-Lead, 1.35 x 1.7 x 0.8 mm Body, 0.4 mm Pitch, Exposed Pad; Supplier 1: Digi-Key; Supplier Part Number 1: 296-27669-2-ND; Supplier 2: Digi-Key; Supplier Part Number 2: 296-27669-1-ND; Supplier 3: Digi-Key; Supplier Part Number 3: 296-27669-6-ND; Supplier 4: Newark; Supplier Part Number 4: 84R0660; Supplier 5: Mouser; Supplier Part Number 5: 595-TPD8E003DQDR; Eco-Plan: Green (RoHS & no Sb/Br); USB High Speed: TRUE; Mounting Technology: Surface Mount; ComponentLink1Description: Datasheet; ComponentLink1URL: http://www.ti.com/general/docs/lit/getliterature.tsp?genericPartNumber=TPD8E003&fileType=pdf; ComponentLink2Description: URL Link1; ComponentLink2URL: SamplesURL:http://www.ti.com/product/tpd8e003#samples
footprint DQD8-1200X400TP (SON, 8-Leads, Body 1.35x1.7mm, Pitch 0.4mm, Thermal Pad 1.2x0.4mm, TI Recommended)
pins: 1 IO1, 2 IO2, 3 IO3, 4 IO4, 5 IO5, 6 IO6, 7 IO7, 8 IO8, 9 EP (power)

## TPD8F003DQDR
designator U?
EMI Filter for Display Interface, 8 Channels, -40 to +85 degC, 16-pin WSON (DQD), Green (RoHS & no Sb/Br); Manufacturer: Texas Instruments; PartNumber: TPD8F003DQDR; Breakdown Voltage(Min)(V): 6; Ctotal(Typ)(pF): 17; IEC 61000-4-2 Air-Gap(Typ)(+/- kV): 20; IEC 61000-4-2 Contact(Typ)(+/- kV): 12; SubFamily: EMI Solution; DatasheetVersion: SLLS907D; PackageVersion: revC, Dec-2011; PackageReference: DQD16-2800X400TP; PackageDescription: 16-Pin Plastic Small Outline No-Lead, 1.35 x 3.3 x 0.8 mm Body, 0.4 mm Pitch, Exposed Pad; Supplier 1: Digi-Key; Supplier Part Number 1: 296-25803-2-ND; Supplier 2: Digi-Key; Supplier Part Number 2: 296-25803-1-ND; Supplier 3: Digi-Key; Supplier Part Number 3: 296-25803-6-ND; Supplier 4: Farnell; Supplier Part Number 4: 1863884; Supplier 5: Newark; Supplier Part Number 5: 69R4548; Supplier 6: Mouser; Supplier Part Number 6: 595-TPD8F003DQDR; Eco-Plan: Green (RoHS & no Sb/Br); Mounting Technology: Surface Mount; ComponentLink1Description: Datasheet; ComponentLink1URL: http://www.ti.com/general/docs/lit/getliterature.tsp?genericPartNumber=TPD8F003&fileType=pdf; ComponentLink2Description: URL Link1; ComponentLink2URL: SamplesURL:http://www.ti.com/product/tpd8f003#samples
footprint DQD16-2800X400TP (SON, 16-Leads, Body 1.35x3.3mm, Pitch 0.4mm, Thermal Pad 2.8x0.4mm, TI Recommended)
pins: 1 CH1_IN, 2 CH2_IN, 3 CH3_IN, 4 CH4_IN, 5 CH5_IN, 6 CH6_IN, 7 CH7_IN, 8 CH8_IN, 9 CH8_OUT, 10 CH7_OUT, 11 CH6_OUT, 12 CH5_OUT, 13 CH4_OUT, 14 CH3_OUT, 15 CH2_OUT, 16 CH1_OUT, 17 EP (power)

## TPD8S009DSMR
designator U?
ESD Solution for HDMI / DisplayPort, 8 Channels, -40 to +85 degC, 15-pin SON (DSM); Manufacturer: Texas Instruments; PartNumber: TPD8S009DSMR; Breakdown Voltage(Min)(V): 9; Differential Capacitance(pF): 0.05; Eco-Plan: TBD; IEC 61000-4-2 Contact(+/- kV): 8; IO Capacitance(Typ)(pF): 0.8; IO Leakage Current(nA): 10; DatasheetVersion: SLVS816; PackageVersion: revA, Aug-2007; PackageReference: DSM15; PackageDescription: 15-Pin Plastic Small Outline Flat No-Lead, 2.5 x 6.5 x 0.8 mm Body, 0.5/1.5 mm Pitch; Supplier 1: Digi-Key; Supplier Part Number 1: 296-23829-2-ND; Supplier 2: Digi-Key; Supplier Part Number 2: 296-23829-1-ND; Supplier 3: Digi-Key; Supplier Part Number 3: 296-23829-6-ND; Supplier 4: Farnell; Supplier Part Number 4: 1772003; Supplier 5: Newark; Supplier Part Number 5: 33R2192; Supplier 6: Mouser; Supplier Part Number 6: 595-TPD8S009DSMR; IEC 61000-4-2 Air-Gap(+/- kV): 9; SubFamily: ESD Solution; Mounting Technology: Surface Mount; ComponentLink1Description: Datasheet; ComponentLink1URL: http://www.ti.com/general/docs/lit/getliterature.tsp?genericPartNumber=TPD8S009&fileType=pdf; ComponentLink2Description: URL Link1; ComponentLink2URL: SamplesURL:http://www.ti.com/product/tpd8s009#samples
footprint DSM15 (SON, 15-Leads, Body 2.5x6.5mm, Pitch 0.5mm, TI Recommended)
pins: 1 D0+ "High-speed ESD clamp provides ESD protection to the high-speed display port/HDMI differential data lines.", 2 GND (power) "Ground", 3 D0- "High-speed ESD clamp provides ESD protection to the high-speed display port/HDMI differential data lines.", 4 D1+ "High-speed ESD clamp provides ESD protection to the high-speed display port/HDMI differential data lines.", 5 GND (power) "Ground", 6 D1- "High-speed ESD clamp provides ESD protection to the high-speed display port/HDMI differential data lines.", 7 D2+ "High-speed ESD clamp provides ESD protection to the high-speed display port/HDMI differential data lines.", 8 GND (power) "Ground", 9 D2- "High-speed ESD clamp provides ESD protection to the high-speed display port/HDMI differential data lines.", 10 D3+ "High-speed ESD clamp provides ESD protection to the high-speed display port/HDMI differential data lines.", 11 GND (power) "Ground", 12 D3- "High-speed ESD clamp provides ESD protection to the high-speed display port/HDMI differential data lines.", 13 VCC (power) "I/O supply", 14 NC "No internal signal connection", 15 VCC (power) "I/O supply"

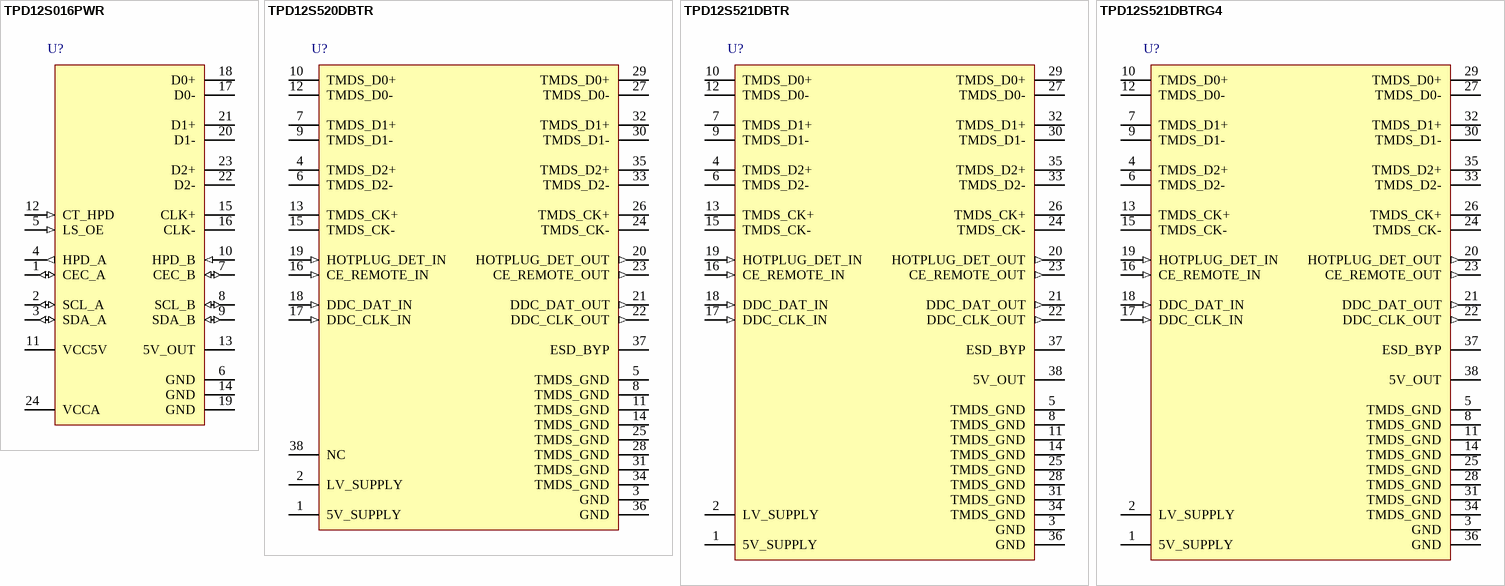
[diagram p2: symbols TPD12S016PWR to TPD12S521DBTRG4]

## TPD12S016PWR
designator U?
Value-Line HDMI Companion Chip for Portable Applications, 12 Channels, -40 to +85 degC, 24-pin TSSOP (PW), Green (RoHS & no Sb/Br); Manufacturer: Texas Instruments; PartNumber: TPD12S016PWR; Breakdown Voltage(Min)(V): 9; Differential Capacitance(pF): 0.05; IEC 61000-4-2 Contact(+/- kV): 8; IO Capacitance(Typ)(pF): 1; IO Leakage Current(nA): 1000; SubFamily: ESD Solution; DatasheetVersion: SLLSE96A; PackageVersion: revG, Feb-2011; PackageReference: PW24; PackageDescription: 24-Pin Thin Small Outline Package 0.65 mm Pitch; Supplier 1: Digi-Key; Supplier Part Number 1: 296-29690-2-ND; Supplier 2: Digi-Key; Supplier Part Number 2: 296-29690-1-ND; Supplier 3: Digi-Key; Supplier Part Number 3: 296-29690-6-ND; Supplier 4: Farnell; Supplier Part Number 4: 2076029; Supplier 5: Newark; Supplier Part Number 5: 75T5157; Supplier 6: Newark; Supplier Part Number 6: 71T5431; Supplier 7: Mouser; Supplier Part Number 7: 595-TPD12S016PWR; Eco-Plan: Green (RoHS & no Sb/Br); Mounting Technology: Surface Mount; Code_JEDEC: MO-153; ComponentLink1Description: Datasheet; ComponentLink1URL: http://www.ti.com/general/docs/lit/getliterature.tsp?genericPartNumber=TPD12S016&fileType=pdf; ComponentLink2Description: URL Link1; ComponentLink2URL: SamplesURL:http://www.ti.com/product/tpd12s016#samples
footprint PW24_N (TSOP, 24-Leads, Body 7.8x4.4mm, Pitch 0.65mm, IPC Medium Density)
footprint PW24_L (TSOP, 24-Leads, Body 7.8x4.4mm, Pitch 0.65mm, IPC High Density)
footprint PW24_M (TSOP, 24-Leads, Body 7.8x4.4mm, Pitch 0.65mm, IPC Low Density)
pins: 1 CEC_A (io) "HDMI controller side CEC signal pin referenced to VCCA. Connect to HDMI controller.", 2 SCL_A (io) "HDMI controller side SCL signal pin referenced to VCCA. Connect to HDMI controller.", 3 SDA_A (io) "HDMI controller side SDA signal pin referenced to VCCA. Connect to HDMI controller.", 4 HPD_A (out) "Hot plug detect Output referenced to VCCA. Connect to HDMI controller Hot plug detect input pin", 5 LS_OE (in) "Disables the Level shifters when OE =L. The OE pin is referenced to VCCA", 6 GND (power) "Connect to System Ground Plane", 7 CEC_B (io) "HDMI connector side CEC signal pin referenced to internal 3.3V supply. Connect to HDMI connector CEC pin.", 8 SCL_B (io) "HDMI connector side SCL signal pin referenced to 5V_OUT supply. Connect to HDMI connector SCL pin.", 9 SDA_B (io) "HDMI connector side SDA signal pin referenced to 5V_OUT supply. Connect to HDMI connector SCL pin.", 10 HPD_B (in) "Hot plug detect Input. Connect directly to HDMI Connector Hot Plug Detect pin", 11 VCC5V (power) "Internal 5V Supply. (Input to the load siwtch.)", 12 CT_HPD (in) "Disables the load switch and HPD_B when CT_HPD =L. The CT_HPD is referenced to VCCA", 13 5V_OUT (power) "External 5V Supply. (Output of the load switch.)", 14 GND (power) "Connect to System Ground Plane", 15 CLK+ "HDMI TMDS Clock. Connect to HDMI Controller and HDMI Connector directly.", 16 CLK- "HDMI TMDS Clock. Connect to HDMI Controller and HDMI Connector directly.", 17 D0- "HDMI TMDS Data. Connect to HDMI Controller and HDMI Connector directly.", 18 D0+ "HDMI TMDS Data. Connect to HDMI Controller and HDMI Connector directly.", 19 GND (power) "Connect to System Ground Plane", 20 D1- "HDMI TMDS Data. Connect to HDMI Controller and HDMI Connector directly.", 21 D1+ "HDMI TMDS Data. Connect to HDMI Controller and HDMI Connector directly.", 22 D2- "HDMI TMDS Data. Connect to HDMI Controller and HDMI Connector directly.", 23 D2+ "HDMI TMDS Data. Connect to HDMI Controller and HDMI Connector directly.", 24 VCCA (power) "Internal PCB Low Voltage Supply (Same as the HDMI Controller Chip Supply)"

## TPD12S520DBTR
designator U?
HDMI Receiver Port Protection and Interface Device, 12 Channels, -40 to +85 degC, 38-pin TSSOP (DBT), Green (RoHS & no Sb/Br); Manufacturer: Texas Instruments; PartNumber: TPD12S520DBTR; Breakdown Voltage(Min)(V): 9; Differential Capacitance(pF): 0.05; IEC 61000-4-2 Contact(+/- kV): 8; IO Capacitance(Typ)(pF): 0.9; SubFamily: ESD Solution; DatasheetVersion: SLVS640C; PackageVersion: revI, Mar-2011; PackageReference: DBT38; PackageDescription: 38-Pin Plastic Small Outline 0.5 mm Pitch; Supplier 1: Digi-Key; Supplier Part Number 1: 296-23617-2-ND; Supplier 2: Digi-Key; Supplier Part Number 2: 296-23617-1-ND; Supplier 3: Digi-Key; Supplier Part Number 3: 296-23617-6-ND; Supplier 4: Newark; Supplier Part Number 4: 85M0176; Supplier 5: Mouser; Supplier Part Number 5: 595-TPD12S520DBTR; Eco-Plan: Green (RoHS & no Sb/Br); IO Leakage Current(nA): 0.05; Mounting Technology: Surface Mount; Code_JEDEC: MO-153; ComponentLink1Description: Datasheet; ComponentLink1URL: http://www.ti.com/general/docs/lit/getliterature.tsp?genericPartNumber=TPD12S520&fileType=pdf; ComponentLink2Description: URL Link1; ComponentLink2URL: SamplesURL:http://www.ti.com/product/tpd12s520#samples
footprint DBT38_N (TSSOP, 38-Leads, Body 9.7x4.4mm, Pitch 0.5mm, IPC Medium Density)
footprint DBT38_L (TSSOP, 38-Leads, Body 9.7x4.4mm, Pitch 0.5mm, IPC High Density)
footprint DBT38_M (TSSOP, 38-Leads, Body 9.7x4.4mm, Pitch 0.5mm, IPC Low Density)
pins: 1 5V_SUPPLY (power) "Current source for 5V_OUT", 2 LV_SUPPLY "Bias for CE/DDC/HOTPLUG level shifters", 3 GND (power) "TMDS ESD and parasitic GND return", 4 TMDS_D2+ "TMDS 0.9-pF ESD protection", 5 TMDS_GND (power) "TMDS ESD and parasitic GND return", 6 TMDS_D2- "TMDS 0.9-pF ESD protection", 7 TMDS_D1+ "TMDS 0.9-pF ESD protection", 8 TMDS_GND (power) "TMDS ESD and parasitic GND return", 9 TMDS_D1- "TMDS 0.9-pF ESD protection", 10 TMDS_D0+ "TMDS 0.9-pF ESD protection", 11 TMDS_GND (power) "TMDS ESD and parasitic GND return", 12 TMDS_D0- "TMDS 0.9-pF ESD protection", 13 TMDS_CK+ "TMDS 0.9-pF ESD protection", 14 TMDS_GND (power) "TMDS ESD and parasitic GND return", 15 TMDS_CK- "TMDS 0.9-pF ESD protection", 16 CE_REMOTE_IN (in) "LV_SUPPLY referenced logic level into ASIC", 17 DDC_CLK_IN (in) "LV_SUPPLY referenced logic level into ASIC", 18 DDC_DAT_IN (in) "LV_SUPPLY referenced logic level into ASIC", 19 HOTPLUG_DET_IN (in) "LV_SUPPLY referenced logic level into ASIC", 20 HOTPLUG_DET_OUT (out) "5V_SUPPLY referenced logic level out, plus 3.5-pF ESDto connector", 21 DDC_DAT_OUT (out) "5V_SUPPLY referenced logic level out, plus 3.5-pF ESD to connector", 22 DDC_CLK_OUT (out) "5V_SUPPLY referenced logic level out, plus 3.5-pF ESD to connector", 23 CE_REMOTE_OUT (out) "5V_SUPPLY referenced logic level out, plus 3.5-pF ESD to connector", 24 TMDS_CK- "TMDS 0.9-pF ESD protection", 25 TMDS_GND (power) "TMDS ESD and parasitic GND return", 26 TMDS_CK+ "TMDS 0.9-pF ESD protection", 27 TMDS_D0- "TMDS 0.9-pF ESD protection", 28 TMDS_GND (power) "TMDS ESD and parasitic GND return", 29 TMDS_D0+ "TMDS 0.9-pF ESD protection", 30 TMDS_D1- "TMDS 0.9-pF ESD protection", 31 TMDS_GND (power) "TMDS ESD and parasitic GND return", 32 TMDS_D1+ "TMDS 0.9-pF ESD protection", 33 TMDS_D2- "TMDS 0.9-pF ESD protection", 34 TMDS_GND (power) "TMDS ESD and parasitic GND return", 35 TMDS_D2+ "TMDS 0.9-pF ESD protection", 36 GND (power) "TMDS ESD and parasitic GND return", 37 ESD_BYP "ESD bypass. This pin must be connected to a 0.1-uF ceramic capacitor.", 38 NC "No connection"

## TPD12S521DBTR
designator U?
HDMI Transmitter Port Protection and Interface Device, 12 Channels, -40 to +85 degC, 38-pin TSSOP (DBT), Green (RoHS & no Sb/Br); Manufacturer: Texas Instruments; PartNumber: TPD12S521DBTR; Breakdown Voltage(Min)(V): 9; Differential Capacitance(pF): 0.05; IEC 61000-4-2 Contact(+/- kV): 8; IO Capacitance(Typ)(pF): 0.8; IO Leakage Current(nA): 10; SubFamily: ESD Solution; DatasheetVersion: SLVS639B; PackageVersion: revI, Mar-2011; PackageReference: DBT38; PackageDescription: 38-Pin Plastic Small Outline 0.5 mm Pitch; Supplier 1: Digi-Key; Supplier Part Number 1: 296-24020-2-ND; Supplier 2: Digi-Key; Supplier Part Number 2: 296-24020-1-ND; Supplier 3: Digi-Key; Supplier Part Number 3: 296-24020-6-ND; Supplier 4: Farnell; Supplier Part Number 4: 2120464; Supplier 5: Newark; Supplier Part Number 5: 94T5087; Supplier 6: Newark; Supplier Part Number 6: 34P6464; Supplier 7: Mouser; Supplier Part Number 7: 595-TPD12S521DBTR; Eco-Plan: Green (RoHS & no Sb/Br); Mounting Technology: Surface Mount; Code_JEDEC: MO-153; ComponentLink1Description: Datasheet; ComponentLink1URL: http://www.ti.com/general/docs/lit/getliterature.tsp?genericPartNumber=TPD12S521&fileType=pdf; ComponentLink2Description: URL Link1; ComponentLink2URL: SamplesURL:http://www.ti.com/product/tpd12s521#samples
footprint DBT38_N (TSSOP, 38-Leads, Body 9.7x4.4mm, Pitch 0.5mm, IPC Medium Density)
footprint DBT38_L (TSSOP, 38-Leads, Body 9.7x4.4mm, Pitch 0.5mm, IPC High Density)
footprint DBT38_M (TSSOP, 38-Leads, Body 9.7x4.4mm, Pitch 0.5mm, IPC Low Density)
pins: 1 5V_SUPPLY (power) "Current source for 5V_OUT", 2 LV_SUPPLY (power) "Bias for CE/DDC/HOTPLUG level shifters", 3 GND (power) "TMDS ESD and parasitic GND return", 4 TMDS_D2+ "TMDS 0.8-pF ESD protection", 5 TMDS_GND (power) "TMDS ESD and parasitic GND return", 6 TMDS_D2- "TMDS 0.8-pF ESD protection", 7 TMDS_D1+ "TMDS 0.8-pF ESD protection", 8 TMDS_GND (power) "TMDS ESD and parasitic GND return", 9 TMDS_D1- "TMDS 0.8-pF ESD protection", 10 TMDS_D0+ "TMDS 0.8-pF ESD protection", 11 TMDS_GND (power) "TMDS ESD and parasitic GND return", 12 TMDS_D0- "TMDS 0.8-pF ESD protection", 13 TMDS_CK+ "TMDS 0.8-pF ESD protection", 14 TMDS_GND (power) "TMDS ESD and parasitic GND return", 15 TMDS_CK- "TMDS 0.8-pF ESD protection", 16 CE_REMOTE_IN (in) "LV_SUPPLY referenced logic level into ASIC", 17 DDC_CLK_IN (in) "LV_SUPPLY referenced logic level into ASIC", 18 DDC_DAT_IN (in) "LV_SUPPLY referenced logic level into ASIC", 19 HOTPLUG_DET_IN (in) "LV_SUPPLY referenced logic level into ASIC", 20 HOTPLUG_DET_OUT (out) "5V_SUPPLY referenced logic level out, plus 3.5-pF ESD to connector", 21 DDC_DAT_OUT (out) "5V_SUPPLY referenced logic level out, plus 3.5-pF ESD to connector", 22 DDC_CLK_OUT (out) "5V_SUPPLY referenced logic level out, plus 3.5-pF ESD to connector", 23 CE_REMOTE_OUT (out) "5V_SUPPLY referenced logic level out, plus 3.5-pF ESD to connector", 24 TMDS_CK- "TMDS 0.8-pF ESD protection", 25 TMDS_GND (power) "TMDS ESD and parasitic GND return", 26 TMDS_CK+ "TMDS 0.8-pF ESD protection", 27 TMDS_D0- "TMDS 0.8-pF ESD protection", 28 TMDS_GND (power) "TMDS ESD and parasitic GND return", 29 TMDS_D0+ "TMDS 0.8-pF ESD protection", 30 TMDS_D1- "TMDS 0.8-pF ESD protection", 31 TMDS_GND (power) "TMDS ESD and parasitic GND return", 32 TMDS_D1+ "TMDS 0.8-pF ESD protection", 33 TMDS_D2- "TMDS 0.8-pF ESD protection", 34 TMDS_GND (power) "TMDS ESD and parasitic GND return", 35 TMDS_D2+ "TMDS 0.8-pF ESD protection", 36 GND (power) "TMDS ESD and parasitic GND return", 37 ESD_BYP "ESD bypass. This pin must be connected to a 0.1-uF ceramic capacitor.", 38 5V_OUT (power) "5-V regulator output"

## TPD12S521DBTRG4
designator U?
HDMI Transmitter Port Protection and Interface Device, 12 Channels, -40 to +85 degC, 38-pin TSSOP (DBT), Green (RoHS & no Sb/Br); Manufacturer: Texas Instruments; PartNumber: TPD12S521DBTRG4; Breakdown Voltage(Min)(V): 9; Differential Capacitance(pF): 0.05; IEC 61000-4-2 Contact(+/- kV): 8; IO Capacitance(Typ)(pF): 0.8; IO Leakage Current(nA): 10; SubFamily: ESD Solution; DatasheetVersion: SLVS639B; PackageVersion: revI, Mar-2011; PackageReference: DBT38; PackageDescription: 38-Pin Plastic Small Outline 0.5 mm Pitch; Supplier 1: Digi-Key; Supplier Part Number 1: TPD12S521DBTRG4-ND; Supplier 2: Newark; Supplier Part Number 2: 45P8253; Supplier 3: Mouser; Supplier Part Number 3: 595-TPD12S521DBTRG4; Eco-Plan: Green (RoHS & no Sb/Br); Mounting Technology: Surface Mount; Code_JEDEC: MO-153; ComponentLink1Description: Datasheet; ComponentLink1URL: http://www.ti.com/general/docs/lit/getliterature.tsp?genericPartNumber=TPD12S521&fileType=pdf; ComponentLink2Description: URL Link1; ComponentLink2URL: SamplesURL:http://www.ti.com/product/tpd12s521#samples
footprint DBT38_N (TSSOP, 38-Leads, Body 9.7x4.4mm, Pitch 0.5mm, IPC Medium Density)
footprint DBT38_L (TSSOP, 38-Leads, Body 9.7x4.4mm, Pitch 0.5mm, IPC High Density)
footprint DBT38_M (TSSOP, 38-Leads, Body 9.7x4.4mm, Pitch 0.5mm, IPC Low Density)
pins: 1 5V_SUPPLY (power) "Current source for 5V_OUT", 2 LV_SUPPLY (power) "Bias for CE/DDC/HOTPLUG level shifters", 3 GND (power) "TMDS ESD and parasitic GND return", 4 TMDS_D2+ "TMDS 0.8-pF ESD protection", 5 TMDS_GND (power) "TMDS ESD and parasitic GND return", 6 TMDS_D2- "TMDS 0.8-pF ESD protection", 7 TMDS_D1+ "TMDS 0.8-pF ESD protection", 8 TMDS_GND (power) "TMDS ESD and parasitic GND return", 9 TMDS_D1- "TMDS 0.8-pF ESD protection", 10 TMDS_D0+ "TMDS 0.8-pF ESD protection", 11 TMDS_GND (power) "TMDS ESD and parasitic GND return", 12 TMDS_D0- "TMDS 0.8-pF ESD protection", 13 TMDS_CK+ "TMDS 0.8-pF ESD protection", 14 TMDS_GND (power) "TMDS ESD and parasitic GND return", 15 TMDS_CK- "TMDS 0.8-pF ESD protection", 16 CE_REMOTE_IN (in) "LV_SUPPLY referenced logic level into ASIC", 17 DDC_CLK_IN (in) "LV_SUPPLY referenced logic level into ASIC", 18 DDC_DAT_IN (in) "LV_SUPPLY referenced logic level into ASIC", 19 HOTPLUG_DET_IN (in) "LV_SUPPLY referenced logic level into ASIC", 20 HOTPLUG_DET_OUT (out) "5V_SUPPLY referenced logic level out, plus 3.5-pF ESD to connector", 21 DDC_DAT_OUT (out) "5V_SUPPLY referenced logic level out, plus 3.5-pF ESD to connector", 22 DDC_CLK_OUT (out) "5V_SUPPLY referenced logic level out, plus 3.5-pF ESD to connector", 23 CE_REMOTE_OUT (out) "5V_SUPPLY referenced logic level out, plus 3.5-pF ESD to connector", 24 TMDS_CK- "TMDS 0.8-pF ESD protection", 25 TMDS_GND (power) "TMDS ESD and parasitic GND return", 26 TMDS_CK+ "TMDS 0.8-pF ESD protection", 27 TMDS_D0- "TMDS 0.8-pF ESD protection", 28 TMDS_GND (power) "TMDS ESD and parasitic GND return", 29 TMDS_D0+ "TMDS 0.8-pF ESD protection", 30 TMDS_D1- "TMDS 0.8-pF ESD protection", 31 TMDS_GND (power) "TMDS ESD and parasitic GND return", 32 TMDS_D1+ "TMDS 0.8-pF ESD protection", 33 TMDS_D2- "TMDS 0.8-pF ESD protection", 34 TMDS_GND (power) "TMDS ESD and parasitic GND return", 35 TMDS_D2+ "TMDS 0.8-pF ESD protection", 36 GND (power) "TMDS ESD and parasitic GND return", 37 ESD_BYP "ESD bypass. This pin must be connected to a 0.1-uF ceramic capacitor.", 38 5V_OUT (power) "5-V regulator output"